# Altium schematic symbol library Touch_key_IDT.Schlib: 1 symbol
Pins are listed as number, name and electrical type; pins without a type are passive.

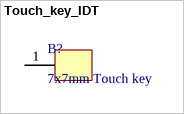
[diagram p0: symbol Touch_key_IDT]

## Touch_key_IDT
designator B?, comment 7x7mm Touch key
pins: 1 Button